# EAGLE library part PIC18F4*J50-I/ML (library mchp-pic18)
44 pins QFN USN microcontroller from 16k to 64k Flash and 4kRam Description PIC18F44J50 (16K Flash, 3776 bytes RAM) PIC18F45J50 (32K Flash, 3776 bytes RAM) PIC18F46J50 (64K Flash, 3776 bytes RAM) Power Management Features with nanoWatt XLP™ for Extreme Low-Power: • Deep Sleep mode: CPU off, Peripherals off, Currents Down to 13 nA and 850 nA with RTCC: - Able to wake-up on external triggers, programmable WDT or RTCC alarm - Ultra Low-Power Wake-up (ULPWU) • Sleep mode: CPU off, Peripherals off, SRAM on, Fast Wake-up, Currents Down to 105 nA, Typical • Idle: CPU off, Peripherals on, Currents Down to 2.3 A, Typical • Run: CPU on, Peripherals on, Currents Down to 6.2 A, Typical • Timer1 Oscillator w/RTCC: 1 A, 32 kHz, Typical • Watchdog Timer: 0.8 µA, 2V, Typical Special Microcontroller Features: • Low-Power, High-Speed CMOS Flash Technology • C Compiler Optimized Architecture for Re-Entrant Code • Priority Levels for Interrupts • Self-Programmable under Software Control • 8 x 8 Single-Cycle Hardware Multiplier • Extended Watchdog Timer (WDT): - Programmable period from 4 ms to 131s • Single-Supply In-Circuit Serial Programming™ (ICSP™) via two pins • In-Circuit Debug (ICD) w/Three Breakpoints via 2 Pins • Operating Voltage Range of 2.0V to 3.6V • On-Chip 2.5V Regulator • Flash Program Memory of 10,000 Erase/Write Cycles Minimum and 20-Year Data Retention Universal Serial Bus (USB) Features • USB V2.0 Compliant • Full Speed (12 Mbps) and Low Speed (1.5 Mbps) • Supports Control, Interrupt, Isochronous and B ulk Transfers • Supports up to 32 Endpoints (16 bidirectional) • USB module can use any RAM Location on the Device as USB Endpoint Buffers • On-Chip USB Transceiver with Crystal-less operation Flexible Oscillator Structure: • High-Precision Internal Oscillator (±0.15% typ.) for USB • Two External Clock modes, up to 48 MHz (12 MIPS) • Low-Power, 31 kHz Internal RC Oscillator • Tunable Internal Oscillator (31 kHz to 8 MHz, or up to 48 MHz with PLL) • Secondary Oscillator using Timer1 @ 32 kHz • Fail-Safe Clock Monitor: - Allows for safe shutdown if any clock stops • Two-Speed Oscillator Start-up • Programmable Reference Clock Output Generator Ref: Datasheets <http://ww1.microchip.com/downloads/en/DeviceDoc/39931d.pdf>
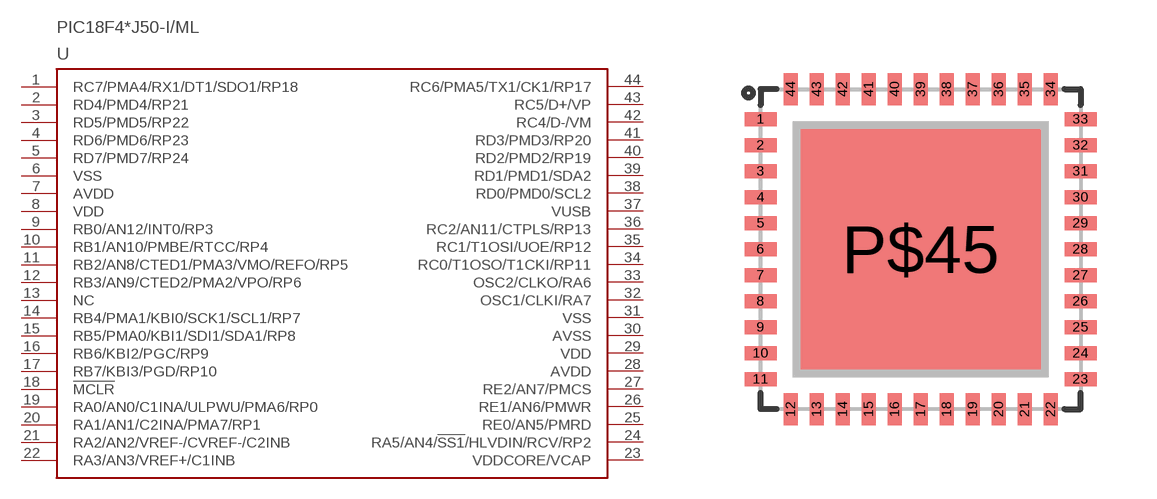
[diagram p4: symbol with the pads of QFN65P800X800X100-44N; footprint QFN65P800X800X100-44N]

Designator prefix -

## PIC18F44J50-I/ML', PIC18F45J50-I/ML', PIC18F46J50-I/ML'  [QFN65P800X800X100-44N]
1  RC7/PMA4/RX1/DT1/SDO1/RP18
2  RD4/PMD4/RP21
3  RD5/PMD5/RP22
4  RD6/PMD6/RP23
5  RD7/PMD7/RP24
6  VSS  pwr
7  AVDD  pwr
8  VDD  pwr
9  RB0/AN12/INT0/RP3
10  RB1/AN10/PMBE/RTCC/RP4
11  RB2/AN8/CTED1/PMA3/VMO/REFO/RP5
12  RB3/AN9/CTED2/PMA2/VPO/RP6
13  NC
14  RB4/PMA1/KBI0/SCK1/SCL1/RP7
15  RB5/PMA0/KBI1/SDI1/SDA1/RP8
16  RB6/KBI2/PGC/RP9
17  RB7/KBI3/PGD/RP10
18  !MCLR
19  RA0/AN0/C1INA/ULPWU/PMA6/RP0
20  RA1/AN1/C2INA/PMA7/RP1
21  RA2/AN2/VREF-/CVREF-/C2INB
22  RA3/AN3/VREF+/C1INB
23  VDDCORE/VCAP  pwr
24  RA5/AN4/!SS1!/HLVDIN/RCV/RP2
25  RE0/AN5/PMRD
26  RE1/AN6/PMWR
27  RE2/AN7/PMCS
28  AVDD  pwr
29  VDD  pwr
30  AVSS  pwr
31  VSS  pwr
32  OSC1/CLKI/RA7
33  OSC2/CLKO/RA6
34  RC0/T1OSO/T1CKI/RP11
35  RC1/T1OSI/UOE/RP12
36  RC2/AN11/CTPLS/RP13
37  VUSB  pwr
38  RD0/PMD0/SCL2
39  RD1/PMD1/SDA2
40  RD2/PMD2/RP19
41  RD3/PMD3/RP20
42  RC4/D-/VM
43  RC5/D+/VP
44  RC6/PMA5/TX1/CK1/RP17

## Footprint QFN65P800X800X100-44N (pad centres in mm)
0.65, Quad Flat No lead package (QFN44) 0.65mm Pitch 0.35mm Pin Width 11 x11, 44 Pin count 8.0mm L x 8.0mm W x 1.0mm H ----------------------------------------
smd 0.8 x 0.35: 1 -4,3.25; 2 -4,2.6; 3 -4,1.95; 4 -4,1.3; 5 -4,0.65; 6 -4,0; 7 -4,-0.65; 8 -4,-1.3; 9 -4,-1.95; 10 -4,-2.6; 11 -4,-3.25; 23 4,-3.25; 24 4,-2.6; 25 4,-1.95; 26 4,-1.3; 27 4,-0.65; 28 4,0; 29 4,0.65; 30 4,1.3; 31 4,1.95; 32 4,2.6; 33 4,3.25
smd 0.35 x 0.8: 12 -3.25,-4; 13 -2.6,-4; 14 -1.95,-4; 15 -1.3,-4; 16 -0.65,-4; 17 0,-4; 18 0.65,-4; 19 1.3,-4; 20 1.95,-4; 21 2.6,-4; 22 3.25,-4; 34 3.25,4; 35 2.6,4; 36 1.95,4; 37 1.3,4; 38 0.65,4; 39 0,4; 40 -0.65,4; 41 -1.3,4; 42 -1.95,4; 43 -2.6,4; 44 -3.25,4
smd 6 x 6: P$45 0,0